# EAGLE library part ESP32-DEVKIT (library ESP32 Devkit)
ESP32 Devkit 38 GPIO Pins Specifications: Single or Dual-Core 32-bit LX6 Microprocessor with clock frequency up to 240 MHz. 520 KB of SRAM, 448 KB of ROM and 16 KB of RTC SRAM. Supports 802.11 b/g/n Wi-Fi connectivity with speeds up to 150 Mbps. Support for both Classic Bluetooth v4.2 and BLE specifications. 34 Programmable GPIOs. Up to 18 channels of 12-bit SAR ADC and 2 channels of 8-bit DAC. Serial Connectivity include 4 x SPI, 2 x I2C, 2 x I2S, 3 x UART. Ethernet MAC for physical LAN Communication (requires external PHY). 1 Host controller for SD/SDIO/MMC and 1 Slave controller for SDIO/SPI. Motor PWM and up to 16-channels of LED PWM. Secure Boot and Flash Encryption. Cryptographic Hardware Acceleration for AES, Hash (SHA-2), RSA, ECC and RNG.
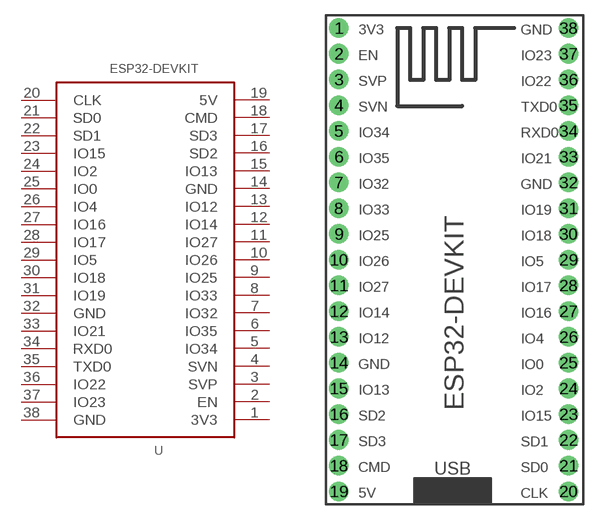
[diagram p0: symbol with the pads of ESP32-38PINS; footprint ESP32-38PINS]

Designator prefix -

## ESP32-DEVKIT  [ESP32-38PINS]
1  3V3
2  EN
3  SVP
4  SVN
5  IO34
6  IO35
7  IO32
8  IO33
9  IO25
10  IO26
11  IO27
12  IO14
13  IO12
14  GND
15  IO13
16  SD2
17  SD3
18  CMD
19  5V
20  CLK
21  SD0
22  SD1
23  IO15
24  IO2
25  IO0
26  IO4
27  IO16
28  IO17
29  IO5
30  IO18
31  IO19
32  GND
33  IO21
34  RXD0
35  TXD0
36  IO22
37  IO23
38  GND

## Footprint ESP32-38PINS (pad centres in mm)
38 GPIO Pins Dev Board Dimensions: 4.8cm x 2.5cm (Approx.)
drill 1 pad 1.93: 1 1.408,47.131; 2 1.408,44.591; 3 1.408,42.051; 4 1.408,39.511; 5 1.408,36.971; 6 1.408,34.431; 7 1.408,31.891; 8 1.408,29.351; 9 1.408,26.811; 10 1.408,24.271; 11 1.408,21.731; 12 1.408,19.191; 13 1.408,16.651; 14 1.408,14.111; 15 1.408,11.571; 16 1.408,9.031; 17 1.408,6.491; 18 1.408,3.951; 19 1.408,1.411; 20 24.058,1.411; 21 24.058,3.951; 22 24.058,6.491; 23 24.058,9.031; 24 24.058,11.571; 25 24.058,14.111; 26 24.058,16.651; 27 24.058,19.191; 28 24.058,21.731; 29 24.058,24.271; 30 24.058,26.811; 31 24.058,29.351; 32 24.058,31.891; 33 24.058,34.431; 34 24.058,36.971; 35 24.058,39.511; 36 24.058,42.051; 37 24.058,44.591; 38 24.058,47.131